# Altium footprint library Transistors_footprints.PcbLib: 10 footprints
Each footprint in its own frame and in the unit in brackets; x right, y up, seen from the top. Pads: shape width x height; smd on the part's side, far side on the other; paste and mask are expansions set on the pad; w line width, h text height; cw(c..) or ccw(c..) is an arc to the next point about the centre after c.
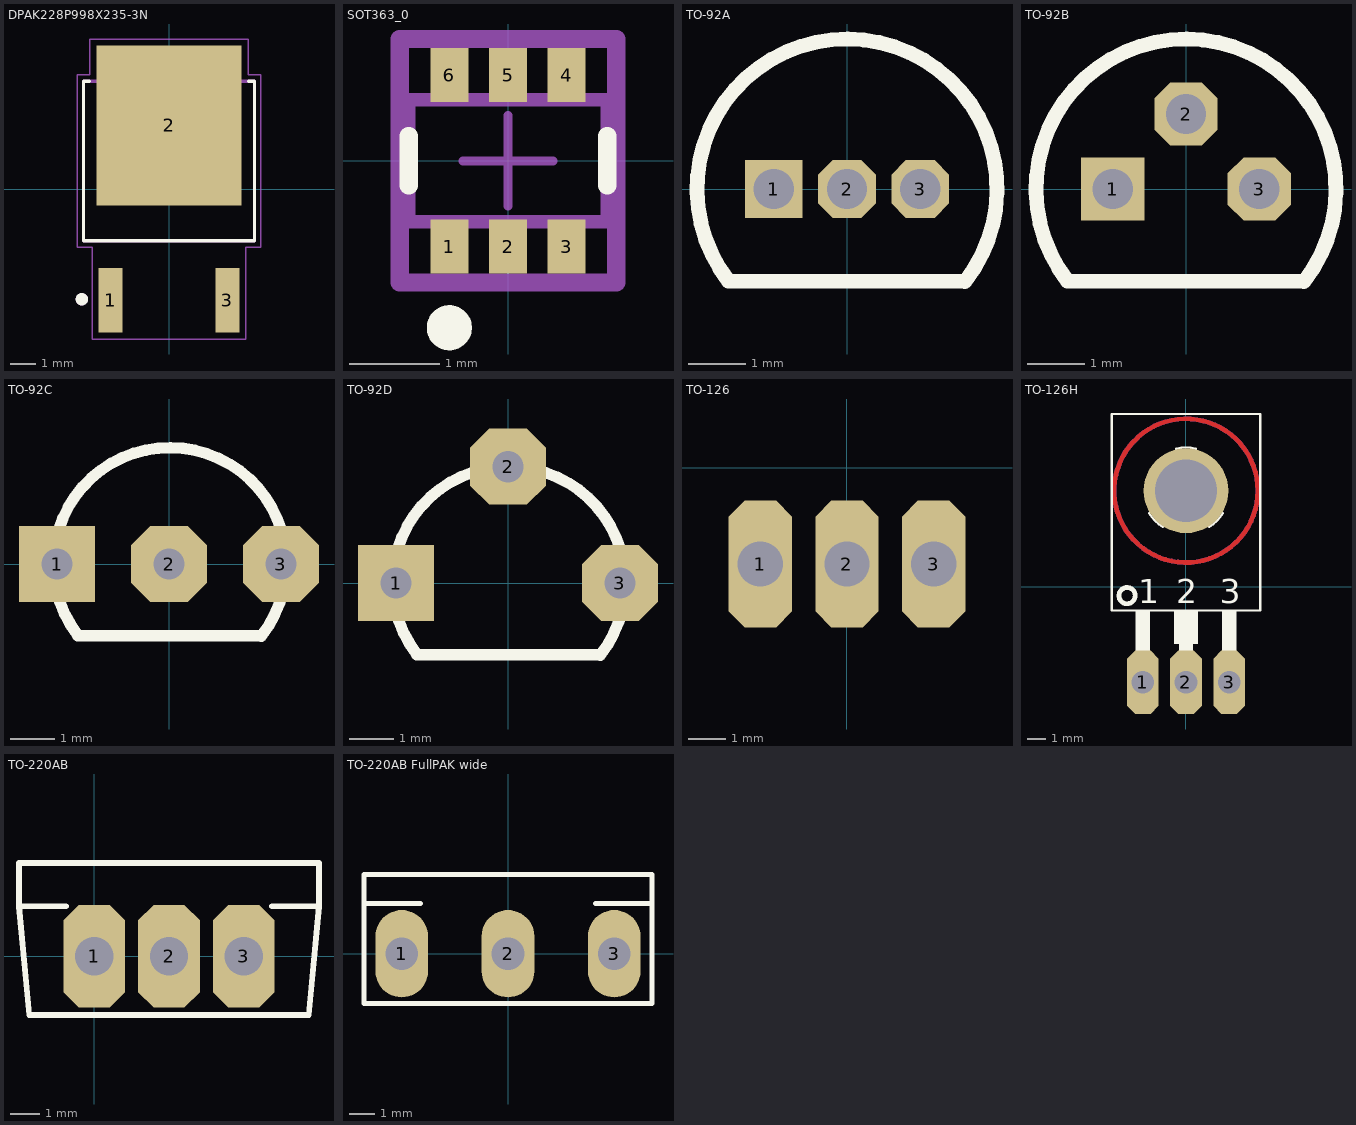
[diagram p0: the footprints below, top view; thin cyan lines are the x and y axes]

## DPAK228P998X235-3N [mm]
pads (3):
  rect 0.94x2.52 smd: 1(-2.28,-4.34) 3(2.28,-4.34)
  rect 5.67x6.23 smd: 2(0,2.48)
Top Overlay:
  circle w0.24: c-3.4,-4.3 r0.12
  lines w0.127: -3.1,4.2 -3.33,4.2 -3.33,-2.02 3.33,-2.02 3.33,4.2 3.1,4.2
Top Paste:
  region: -0.655,3.23 0.655,3.23 0.655,1.73 -0.655,1.73
  region: -0.655,5.31 0.655,5.31 0.655,3.81 -0.655,3.81
  region: -0.655,1.15 0.655,1.15 0.655,-0.35 -0.655,-0.35
  region: -2.545,5.31 -1.235,5.31 -1.235,3.81 -2.545,3.81
  region: 1.235,5.31 2.545,5.31 2.545,3.81 1.235,3.81
  region: 1.235,3.23 2.545,3.23 2.545,1.73 1.235,1.73
  region: -2.545,3.23 -1.235,3.23 -1.235,1.73 -2.545,1.73
  region: 1.235,1.15 2.545,1.15 2.545,-0.35 1.235,-0.35
  region: -2.545,1.15 -1.235,1.15 -1.235,-0.35 -2.545,-0.35
Mechanical 4:
  circle w0.24: c-3.4,-4.3 r0.12
  circle w0.24: c-3.4,-4.3 r0.12
  lines w0.127: -3.33,-2.02 3.33,-2.02 ; -3.33,-2.02 -3.33,4.2 ; -3.33,-2.02 3.33,-2.02 ; -3.33,-2.02 -3.33,4.2 ; -3.33,4.2 3.33,4.2 ; -3.33,4.2 3.33,4.2 ; 3.33,-2.02 3.33,4.2 ; 3.33,-2.02 3.33,4.2
Mechanical 16:
  lines w0.05: -3.58,-2.27 -3,-2.27 -3,-5.85 3,-5.85 3,-2.27 3.58,-2.27 3.58,4.45 3.09,4.45 3.09,5.85 -3.09,5.85 -3.09,4.45 -3.58,4.45 -3.58,-2.27

## SOT363_0 [mm]
pads (6):
  rect 0.42x0.6 smd paste+0 mask+0: 1(-0.65,-0.95) 2(0,-0.95) 3(0.65,-0.95) 4(0.65,0.95) 5(0,0.95) 6(-0.65,0.95)
Top Overlay:
  circle w0.25: c-0.65,-1.85 r0.125
  lines w0.2: -1.1,-0.275 -1.1,0.275 ; 1.1,-0.275 1.1,0.275
Mechanical 10:
  lines w0.2: -1.2,-1.35 -1.2,1.35 1.2,1.35 1.2,-1.35 -1.2,-1.35
  text ".Designator" at 0,0 h1
Mechanical 12:
  lines w0.15: -1.1,-0.675 -1.1,0.675 1.1,0.675 1.1,-0.675 -1.1,-0.675
Mechanical 15:
  lines w0.1: -0.5,0 0.5,0 ; 0,-0.5 0,0.5
  lines w0.2: -1.2,-1.35 -1.2,1.35 1.2,1.35 1.2,-1.35 -1.2,-1.35
3D body "Trans_Diodes_DMG1016UDW-7_eec.STEP": height 0.25, standoff 0, extent -1.2,-1.35 1.2,1.35

## TO-92A [mm]
height 19.7
pads (3):
  rect 1x1 hole 0.7: 1(-1.27,0)
  oct 1x1 hole 0.7: 2(0,0) 3(1.27,0)
Top Overlay:
  lines w0.254: -2.057,-1.6 2.03,-1.6 ; -2.057,-1.59 cw(c0,0) 2.042,-1.609
3D body "User Library-TO-92A.step": height 8, standoff -3, extent -2.4,-1.53 2.4,2.4

## TO-92B [mm]
height 19.7
pads (3):
  rect 1.1x1.1 hole 0.7: 1(-1.27,0)
  oct 1.1x1.1 hole 0.7: 2(0,1.3) 3(1.27,0)
Top Overlay:
  lines w0.254: -2.057,-1.6 2.03,-1.6 ; -2.057,-1.59 cw(c0,0) 2.042,-1.609
3D body "User Library-TO-92B.step": height 8, standoff -3.02, extent -2.4,-1.53 2.4,2.4

## TO-92C [mm]
height 19.7
pads (3):
  rect 1.7x1.7 hole 0.7: 1(-2.5,0)
  oct 1.7x1.7 hole 0.7: 2(0,0) 3(2.5,0)
Top Overlay:
  lines w0.254: -2.037,-1.6 2.05,-1.6 ; -2.037,-1.59 cw(c0.02,0) 2.062,-1.609
3D body "User Library-TO92.step": height 7.7, standoff -3.6, extent -2.745,-1.55 2.785,2.528

## TO-92D [mm]
height 19.7
pads (3):
  rect 1.7x1.7 hole 0.7: 1(-2.5,0)
  oct 1.7x1.7 hole 0.7: 2(0,2.6) 3(2.5,0)
Top Overlay:
  lines w0.254: -2.037,-1.6 2.05,-1.6 ; -2.037,-1.59 cw(c0.02,0) 2.062,-1.609
3D body "User Library-TO-92D.step": height 8, standoff -3.02, extent -2.767,-1.53 2.808,2.81

## TO-126 [mil]
pads (3):
  oct 66x132 hole 47.24: 1(-90,-100) 2(0,-100) 3(90,-100)
3D body "User Library-2SB649A (TO-126 MOD) v3.step": height 551.18, standoff -118.11, extent -157.68,-144.24 157.29,-37.94

## TO-126H [mm]
pads (4):
  oct 1.676x3.353 hole 1.2: 1(-2.281,-5.076) 2(0.005,-5.076) 3(2.291,-5.076)
  round 4.5 hole 3.3 unplated: ""(0.005,5.084)
Top Layer:
  circle w0.254: c0.005,5.084 r3.81
Bottom Layer:
  circle w0.254: c0.005,5.084 r3.81
Top Overlay:
  circle w0.254: c-3.119,-0.479 r0.432
  circle w0.127: c0.005,5.084 r1.651
  rectangle: -0.63,-3.044 0.64,-1.266
  rectangle: -2.662,-3.425 -1.9,-1.266
  rectangle: -0.376,-3.425 0.386,-1.266
  rectangle: 1.91,-3.425 2.672,-1.266
  lines w0.127: -1.474,4.349 -1.944,3.89 ccw(c0.005,5.084) -1.234,3.163 -0.764,3.623 ; -0.503,6.655 -0.503,7.313 cw(c0.005,5.084) 0.513,7.313 0.513,6.655 ; 0.774,3.623 1.244,3.163 ccw(c0.005,5.084) 1.954,3.889 1.484,4.349 ; -3.932,-1.266 -3.932,9.148 3.942,9.148 3.942,-1.266 -3.932,-1.266
  text "1" at -2.535,-0.885 h1.27
  text "2" at -0.503,-0.885 h1.27
  text "3" at 1.783,-0.885 h1.27

## TO-220AB [mm]
pads (3):
  oct 2.1x3.5 hole 1.3: 1(0,0) 2(2.54,0) 3(5.08,0)
Top Overlay:
  lines w0.2: -0.96,1.7 -2.56,1.7 ; 6.04,1.7 7.64,1.7 ; -2.56,1.7 -2.56,3.175 7.64,3.175 7.64,1.7 ; -2.56,1.7 -2.21,-2 7.29,-2 7.64,1.7
3D body "SW3DPS-TO-220HS-DEFAULT.STEP": height 18.54, standoff -3.81, extent -2.54,-1.397 7.62,3.175

## TO-220AB FullPAK wide [mm]
pads (3):
  oval 2.1x3.5 hole 1.3: 1(-4.25,0) 2(0,0) 3(4.25,0)
Top Overlay:
  lines w0.2: -3.5,2 -5.75,2 ; 3.5,2 5.75,2 ; -5.75,2 -5.75,3.175 5.75,3.175 5.75,2 ; -5.75,2 -5.75,-2 5.75,-2 5.75,2